# EAGLE library part B7B-EH (library con-JST EH)
JST EH series header 2.50mm pitch disconnectable crimp style connectors, vertical (side entry type), 7 pins
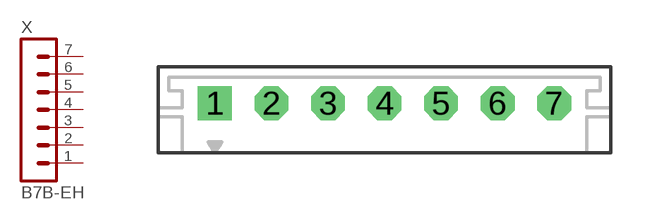
[diagram p1: symbol with the pads of B7B-EH-A; footprint B7B-EH-A]

Designator prefix X

## B7B-EH-A  [B7B-EH-A]
1  1  pas
2  2  pas
3  3  pas
4  4  pas
5  5  pas
6  6  pas
7  7  pas

## Footprint B7B-EH-A (pad centres in mm)
JST EH series header 2.50mm pitch disconnectable crimp style connectors, vertical (top entry type), 7 pins
drill 0.9 pad 1.5 square: 1 -7.5,0
drill 0.9 pad 1.5 octagon: 2 -5,0; 3 -2.5,0; 4 0,0; 5 2.5,0; 6 5,0; 7 7.5,0